# Altium footprint library PCB_BusinessCard.PCBLIB: 2 footprints
Each footprint in its own frame and in the unit in brackets; x right, y up, seen from the top. Pads: shape width x height; smd on the part's side, far side on the other; paste and mask are expansions set on the pad; w line width, h text height; cw(c..) or ccw(c..) is an arc to the next point about the centre after c.
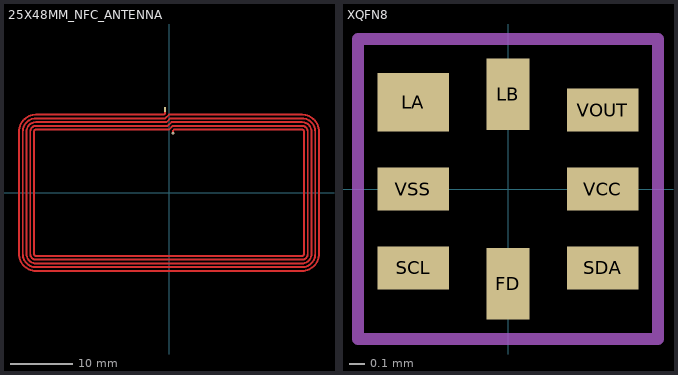
[diagram p0: the footprints below, top view; thin cyan lines are the x and y axes]

## 25X48MM_NFC_ANTENNA [mm]
pads (2):
  rect 0.3x0.75 smd: P$1(-0.635,13.335)
  round 0.45 / inner round 1.524 / far side round 0.45 hole 0.3: P$2(0.635,9.525)
Top Layer:
  lines w0.3: -0.635,13.462 -0.635,13.335 -0.635,12.665 -0.8,12.5 -21.3,12.5 ccw(c-21.3,9.8) -24,9.8 -24,-9.8 ccw(c-21.3,-9.8) -21.3,-12.5 21.3,-12.5 ccw(c21.3,-9.8) 24,-9.8 24,9.8 ccw(c21.3,9.8) 21.3,12.5 0,12.5 -0.6,11.9 -21.3,11.9 ccw(c-21.3,9.8) -23.4,9.8 -23.4,-9.8 ccw(c-21.3,-9.8) -21.3,-11.9 21.3,-11.9 ccw(c21.3,-9.8) 23.4,-9.8 23.4,9.8 ccw(c21.3,9.8) 21.3,11.9 0.2,11.9 -0.4,11.3 -21.3,11.3 ccw(c-21.3,9.8) -22.8,9.8 -22.8,-9.8 ccw(c-21.3,-9.8) -21.3,-11.3 21.3,-11.3 ccw(c21.3,-9.8) 22.8,-9.8 22.8,9.8 ccw(c21.3,9.8) 21.3,11.3 0.4,11.3 -0.2,10.7 -21.3,10.7 ccw(c-21.3,9.8) -22.2,9.8 -22.2,-9.8 ccw(c-21.3,-9.8) -21.3,-10.7 21.3,-10.7 ccw(c21.3,-9.8) 22.2,-9.8 22.2,9.8 ccw(c21.3,9.8) 21.3,10.7 0.6,10.7 0,10.1 -21.3,10.1 ccw(c-21.3,9.8) -21.6,9.8 -21.6,-9.8 ccw(c-21.3,-9.8) -21.3,-10.1 21.3,-10.1 ccw(c21.3,-9.8) 21.6,-9.8 21.6,9.8 ccw(c21.3,9.8) 21.3,10.1 0.8,10.1 0.635,9.935 0.635,9.525

## XQFN8 [mm]
pads (8):
  rect 0.27x0.45 smd: FD(0,-0.6) LB(0,0.6)
  rect 0.45x0.37 smd: LA(-0.6,0.55)
  rect 0.45x0.27 smd: SCL(-0.6,-0.5) SDA(0.6,-0.5) VCC(0.6,0) VOUT(0.6,0.5) VSS(-0.6,0)
Mechanical 8:
  lines w0.076: -0.95,-0.95 -0.95,0.95 0.95,0.95 0.95,-0.95 -0.95,-0.95